# Altium schematic symbol library UOMP_inductors.SchLib: 15 symbols
Pins are listed as number, name and electrical type; pins without a type are passive.

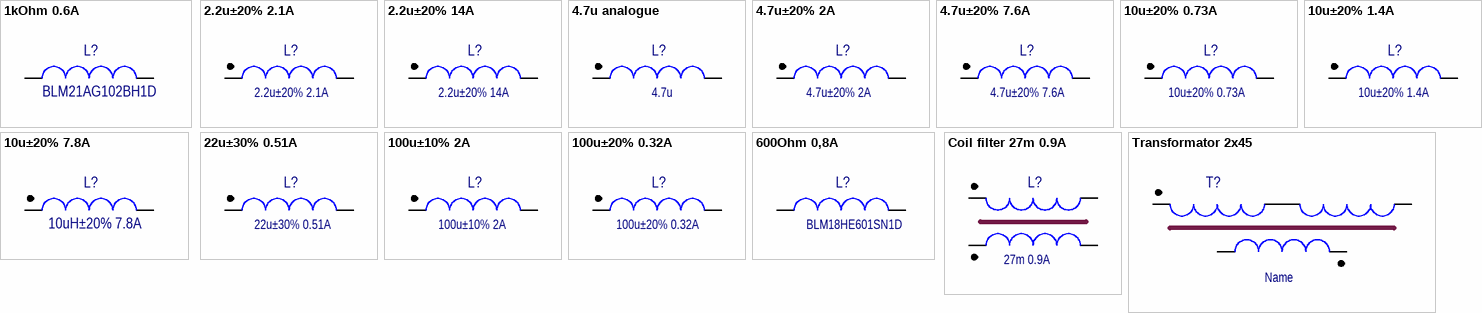
[diagram p0: symbols 1kOhm 0.6A to Transformator 2х45]

## 1kOhm 0.6A
designator L?, comment BLM21AG102BH1D
Code: 6319203831; Name: Дроссель BLM21AG102BH1D, Murata
footprint IND: SMD 0805
pins: 1, 2

## 2.2u±20% 2.1A
designator L?
LPS3015; Code: 6319247691; Name: Дроссель LPS3015-222MRC, Coilcraft
footprint IND: LPS3015
pins: 1, 2

## 2.2u±20% 14A
designator L?
IHLP2525CZER2R2M01; Code: 6319209511; Name: Дроссель IHLP2525CZER2R2M01
footprint IND: 25x25
pins: 1, 2

## 4.7u analogue
designator L?, comment 4.7u
SDR0604-4R7ML; Code: 6319218551; Name: Дроссель SDR0604-4R7ML, BOURNS
footprint IND: SMD 0604 (SDR0604-4R7ML)
pins: 1, 2

## 4.7u±20% 2A
designator L?
LPS5030; Code: 6339119781; Name: Микросхема LPS5030-472MR(B), Coilcraft
footprint IND: LPS5030
pins: 1, 2

## 4.7u±20% 7.6A
designator L?
IHLP4040DZER100M11; Code: 6319196471; Name: Дроссель IHLP4040DZER100M11
footprint IND: 40x40
pins: 1, 2

## 10u±20% 0.73A
designator L?
LPS3015; Code: 6319230911; Name: Дроссель LPS3015-103MRC, Coilcraft
footprint IND: LPS3015
pins: 1, 2

## 10u±20% 1.4A
designator L?
LPS5030; Code: 6339119781; Name: Микросхема LPS5030-103MR(B), Coilcraft
footprint IND: LPS5030
pins: 1, 2

## 10u±20% 7.8A
designator L?, comment 10uH±20% 7.8A
CDRH127/LDNP-100MC; Code: 6319246991; Name: Дроссель CDRH127/LDNP-100MC, Sumida
footprint IND: 12x12 SDRH127
pins: 1, 2

## 22u±30% 0.51A
designator L?
SH3018220YLB; Code: 6319209511; Name: Дроссель IHLP2525CZER2R2M01
footprint IND: LPS3015
pins: 1, 2

## 100u±10% 2A
designator L?
Power Inductors 7445720 0.202ohms; Code: 6310003641; Name: Дроссель 7445720 100uH
footprint IND: SMD 21.5x14.8
pins: 1, 2

## 100u±20% 0.32A
designator L?
LPS5030; Code: *; Name: *
footprint IND: LPS5030
pins: 1, 2

## 600Ohm 0,8A
designator L?, comment BLM18HE601SN1D
Code: 6310011671; Name: Дроссель BLM18HE601SN1D, Murata
footprint IND: SMD 0603 MD IPC 782
pins: 1, 2

## Coil filter 27m 0.9A
designator L?, comment 27m 0.9A
B82732F2901B001; Code: *; Name: B82732F2901B001
footprint IND: Coil Filter 10x18.75
pins: 1 2, 2 1, 3 2, 4 1

## Transformator 2х45
designator T?, comment Name
pins: 1 2, 1 2, 2 1, 3 2, 4 1, 4 1